# EAGLE library part CD4093BE (library CD4093BE)
Check availability <https://pricing.snapeda.com/parts/CD4093BE/Texas%20Instruments/view-part?ref=eda>
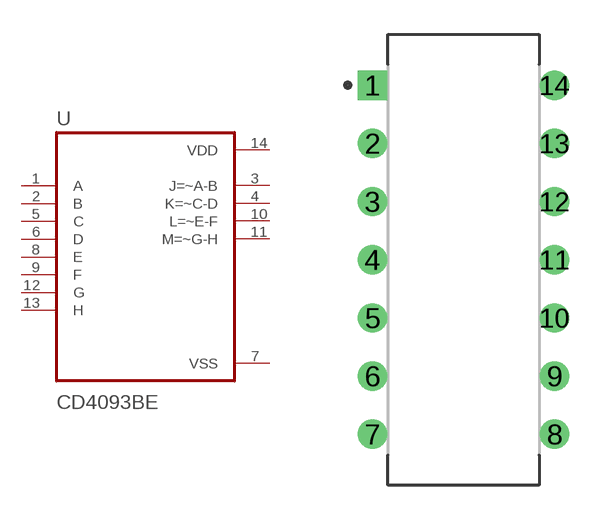
[diagram p0: symbol with the pads of DIP794W45P254L1969H508Q14; footprint DIP794W45P254L1969H508Q14]

Designator prefix U

## CD4093BE (Availability: In Stock; Check_prices: https://www.snapeda.com/parts/CD4093BE/Texas+Instruments/view-part/?ref=eda; Description: 4-ch, 2-input, 3-V to 18-V NAND gates with Schmitt-Trigger inputs; MF: Texas Instruments; MP: CD4093BE; Package: PDIP-14 Texas Instruments; Price: None; SnapEDA_Link: https://www.snapeda.com/parts/CD4093BE/Texas+Instruments/view-part/?ref=snap)  [DIP794W45P254L1969H508Q14]
1  A  in
2  B  in
3  J=~A-B  out
4  K=~C-D  out
5  C  in
6  D  in
7  VSS  pwr
8  E  in
9  F  in
10  L=~E-F  out
11  M=~G-H  out
12  G  in
13  H  in
14  VDD  pwr

## Footprint DIP794W45P254L1969H508Q14 (pad centres in mm)
drill 0.77 pad 1.17 square: 1 -3.97,7.62
drill 0.77 pad 1.17: 2 -3.97,5.08; 3 -3.97,2.54; 4 -3.97,0; 5 -3.97,-2.54; 6 -3.97,-5.08; 7 -3.97,-7.62; 8 3.97,-7.62; 9 3.97,-5.08; 10 3.97,-2.54; 11 3.97,0; 12 3.97,2.54; 13 3.97,5.08; 14 3.97,7.62